# EAGLE library part SATA_POWER_AND_DATA (library geusebio)
3M Vertical SATA Power & Data connector
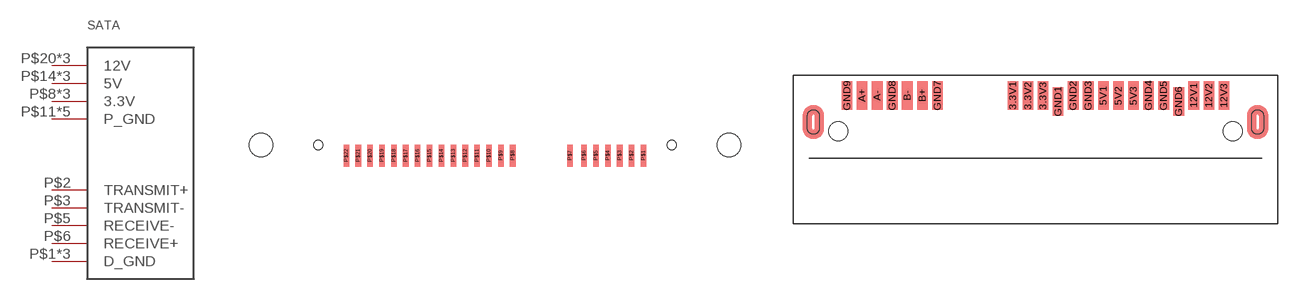
[diagram p0: symbol with the pads of 3M-SATA-5622-1200-ML; footprints 3M-SATA-5622-1200-ML, 3M-SATA-47018-2000]

Designator prefix -

## SATA_POWER_AND_DATA5622-1200-ML  [3M-SATA-5622-1200-ML]
P$1  D_GND
P$2  TRANSMIT+
P$3  TRANSMIT-
P$4  D_GND
P$5  RECEIVE-
P$6  RECEIVE+
P$7  D_GND
P$8  3.3V
P$9  3.3V
P$10  3.3V
P$11  P_GND
P$12  P_GND
P$13  P_GND
P$14  5V
P$15  5V
P$16  5V
P$17  P_GND
P$19  P_GND
P$20  12V
P$21  12V
P$22  12V

## SATA_POWER_AND_DATA47018-2000  [3M-SATA-47018-2000]
3.3V1  3.3V
3.3V2  3.3V
3.3V3  3.3V
5V1  5V
5V2  5V
5V3  5V
12V1  12V
12V2  12V
12V3  12V
A+  TRANSMIT+
A-  TRANSMIT-
B+  RECEIVE+
B-  RECEIVE-
GND1  P_GND
GND2  P_GND
GND3  P_GND
GND4  P_GND
GND5  P_GND
GND6  P_GND
GND7  D_GND
GND8  D_GND
GND9  D_GND

## Footprint 3M-SATA-5622-1200-ML (pad centres in mm)
3M Vertical SATA port, as per http://www.farnell.com/datasheets/674930.pdf
smd 0.6 x 2.35: P$1 40.87,-1.125; P$2 39.6,-1.125; P$3 38.33,-1.125; P$4 37.06,-1.125; P$5 35.79,-1.125; P$6 34.52,-1.125; P$7 33.02,-1.125; P$8 26.9,-1.125; P$9 25.63,-1.125; P$10 24.36,-1.125; P$11 23.09,-1.125; P$12 21.82,-1.125; P$13 20.55,-1.125; P$14 19.28,-1.125; P$15 18.01,-1.125; P$16 16.74,-1.125; P$17 15.47,-1.125; P$18 14.2,-1.125; P$19 12.93,-1.125; P$20 11.66,-1.125; P$21 10.39,-1.125; P$22 9.12,-1.125
hole 2.55 at 0,0
hole 2.55 at 50,0
hole 1 at 43.875,0
hole 1 at 6.125,0

## Footprint 3M-SATA-47018-2000 (pad centres in mm)
3M Vertical SATA port, as per http://www.farnell.com/datasheets/674930.pdf
smd 0.9 x 2.4: 3.3V1 -1.905,4.55; 3.3V2 -0.635,4.55; 3.3V3 0.635,4.55; 5V1 5.715,4.55; 5V2 6.985,4.55; 5V3 8.255,4.55; 12V1 13.335,4.55; 12V2 14.605,4.55; 12V3 15.875,4.55; A+ -14.605,4.55; A- -13.335,4.55; B+ -9.525,4.55; B- -10.795,4.55; GND1 1.905,4.05; GND2 3.175,4.55; GND3 4.445,4.55; GND4 9.525,4.55; GND5 10.795,4.55; GND6 12.065,4.05; GND7 -8.255,4.55; GND8 -12.065,4.55; GND9 -15.875,4.55
hole 1.6 at -16.595,1.55
hole 1.6 at 16.595,1.55